# EAGLE library part DRV8825_MODULE (library TimeExpander)
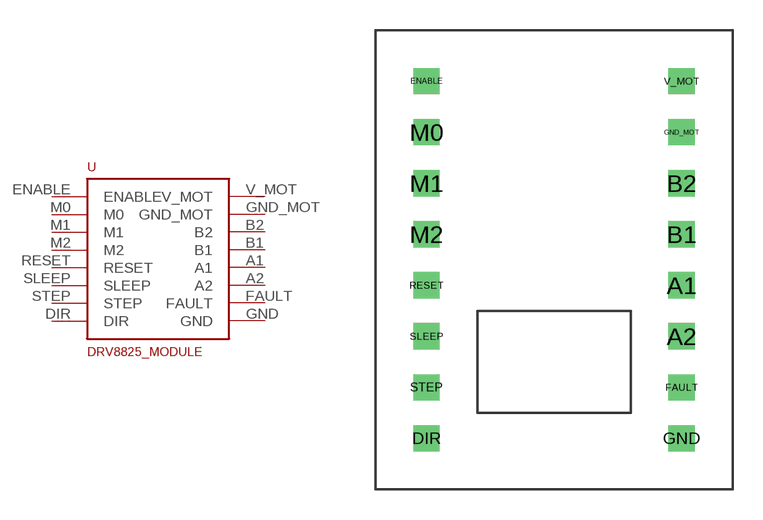
[diagram p10: symbol with the pads of DRV8825_MODULE; footprint DRV8825_MODULE]

Designator prefix -

## DRV8825_MODULE (VALUE: DRV8825)  [DRV8825_MODULE]
A1  A1
A2  A2
B1  B1
B2  B2
DIR  DIR
ENABLE  ENABLE
FAULT  FAULT
GND  GND
GND_MOT  GND_MOT
M0  M0
M1  M1
M2  M2
RESET  RESET
SLEEP  SLEEP
STEP  STEP
V_MOT  V_MOT

## Footprint DRV8825_MODULE (pad centres in mm)
drill 0.8 square: A1 12.7,7.62; A2 12.7,5.08; B1 12.7,10.16; B2 12.7,12.7; DIR 0,0; ENABLE 0,17.78; FAULT 12.7,2.54; GND 12.7,0; GND_MOT 12.7,15.24; M0 0,15.24; M1 0,12.7; M2 0,10.16; RESET 0,7.62; SLEEP 0,5.08; STEP 0,2.54; V_MOT 12.7,17.78